# Altium footprint library surface.PcbLib: 50 footprints (part 2 of 4)
Each footprint in its own frame and in the unit in brackets; x right, y up, seen from the top. Pads: shape width x height; smd on the part's side, far side on the other; paste and mask are expansions set on the pad; w line width, h text height; cw(c..) or ccw(c..) is an arc to the next point about the centre after c.
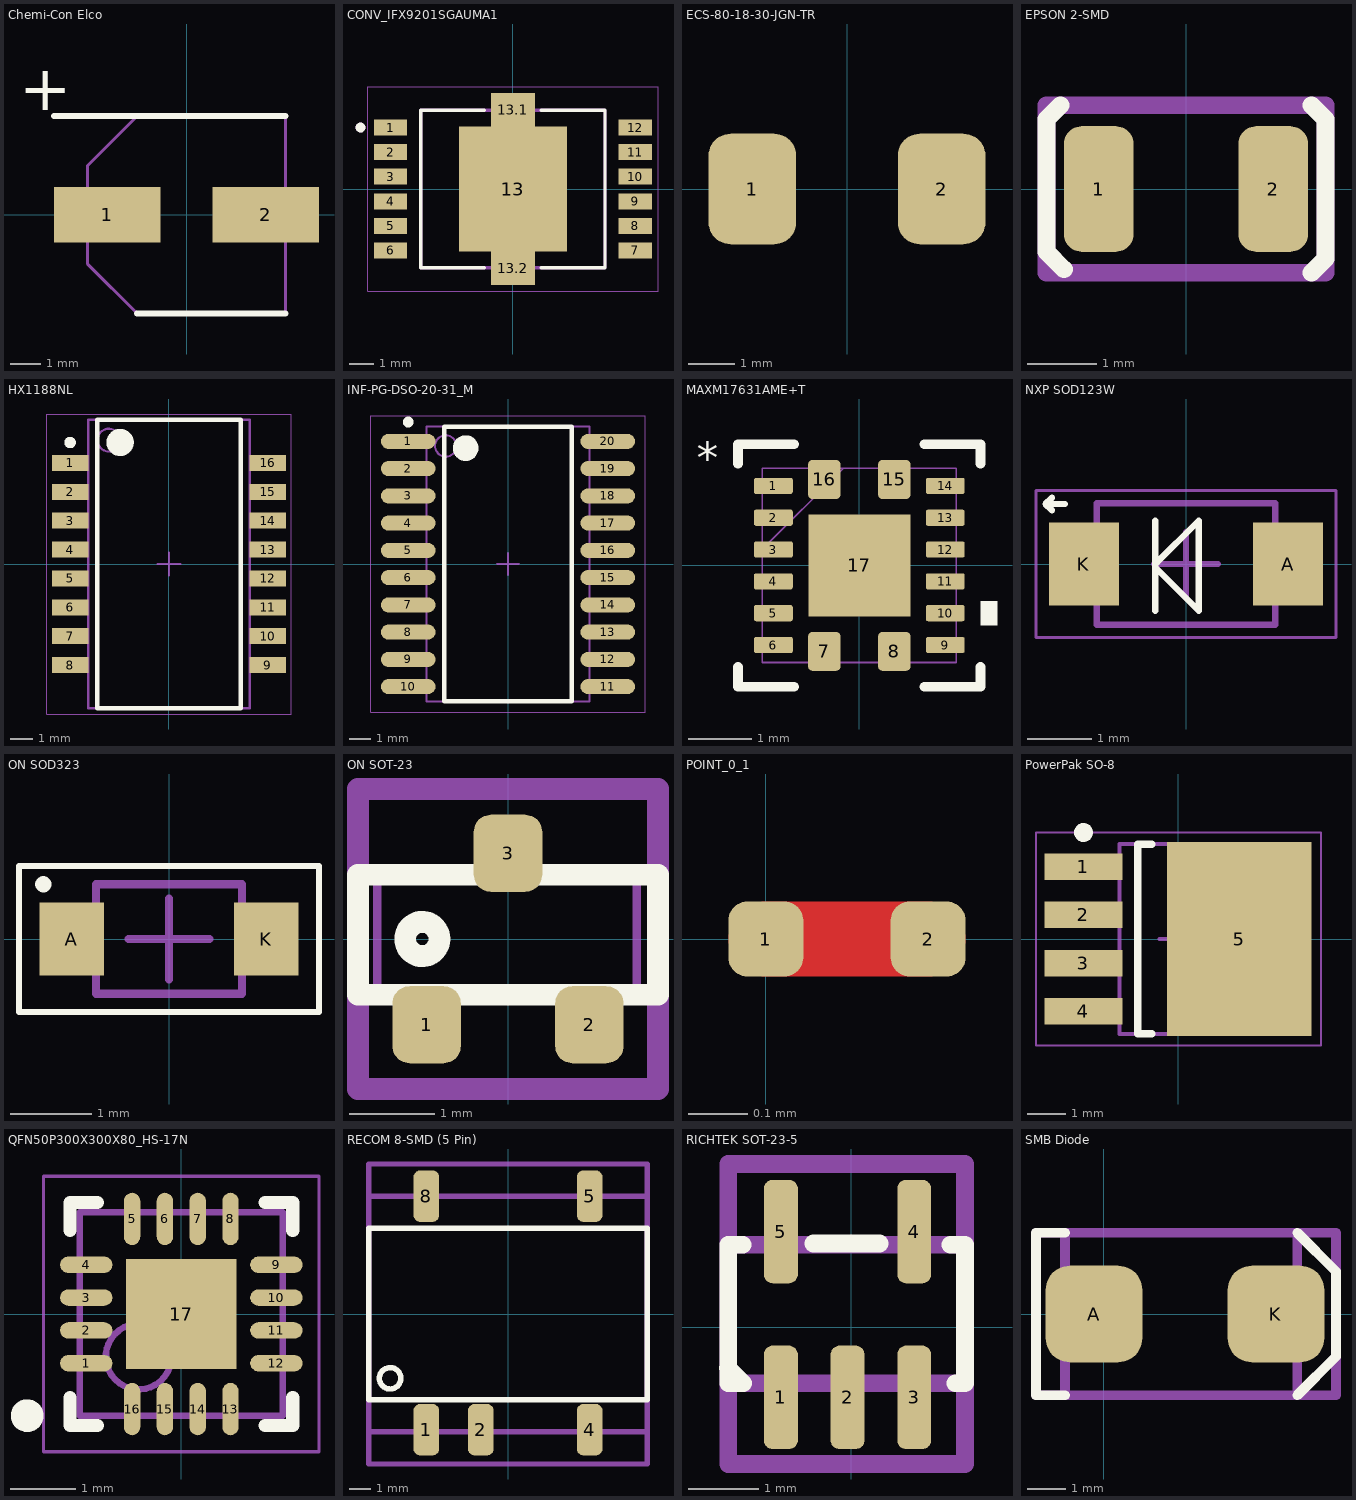
[diagram p1: the footprints below, top view; thin cyan lines are the x and y axes]

## Chemi-Con Elco [mm]
pads (2):
  rect 3.55x1.85 smd: 1(-2.65,0) 2(2.65,0)
Top Overlay:
  lines w0.2: -4.425,3.3 3.3,3.3 ; -1.65,-3.3 3.3,-3.3
  text "+" at -5.596,3.5 h1.52
Mechanical 15:
  lines w0.1: -3.3,-1.65 -3.3,1.65 -1.65,3.3 3.3,3.3 3.3,-3.3 -1.65,-3.3 -3.3,-1.65
3D body "HHXA350ARA470MF61G.stp": height 6.1, standoff 0, extent -3.7,-3.4 3.7,3.4

## CONV_IFX9201SGAUMA1 [mm]
pads (15):
  rect 1.35x0.65 smd: 1(-4.975,2.5) 2(-4.975,1.5) 3(-4.975,0.5) 4(-4.975,-0.5) 5(-4.975,-1.5) 6(-4.975,-2.5) 7(4.975,-2.5) 8(4.975,-1.5) 9(4.975,-0.5) 10(4.975,0.5) 11(4.975,1.5) 12(4.975,2.5)
  rect 4.4x5.1 smd paste-4: 13(0,0)
  rect 1.8x1.35 smd paste-2: 13.1(0,3.225) 13.2(0,-3.225)
Top Overlay:
  circle w0.2: c-6.2,2.5 r0.1
  lines w0.127: -1.15,-3.2 -3.75,-3.2 -3.75,3.2 -1.15,3.2 ; 1.15,-3.2 3.75,-3.2 3.75,3.2 1.15,3.2
Top Paste:
  region: 0.8,-3.8 -0.8,-3.8 -0.8,-2.85 0.8,-2.85
  region: -0.2,-2.45 -2.1,-2.45 -2.1,-0.2 -0.2,-0.2
  region: 2.1,-2.45 0.2,-2.45 0.2,-0.2 2.1,-0.2
  region: -0.2,0.2 -2.1,0.2 -2.1,2.45 -0.2,2.45
  region: 2.1,0.2 0.2,0.2 0.2,2.45 2.1,2.45
  region: 0.8,2.85 -0.8,2.85 -0.8,3.8 0.8,3.8
Mechanical 13:
  circle w0.2: c-6.2,2.5 r0.1
  lines w0.127: -3.75,-3.2 -3.75,3.2 3.75,3.2 3.75,-3.2 -3.75,-3.2
Mechanical 15:
  lines w0.05: -5.9,-4.15 -5.9,4.15 5.9,4.15 5.9,-4.15 -5.9,-4.15
3D body "step_temp.STEP": height 2.6, standoff 0, extent -5.15,-3.9 5.15,3.9

## ECS-80-18-30-JGN-TR [mm]
pads (2):
  rrect50% 1.9x2.4 smd: 1(-2.05,0) 2(2.05,0)

## EPSON 2-SMD [mm]
pads (2):
  rrect50% 1x1.8 smd: 1(-1.25,0) 2(1.25,0)
Top Overlay:
  lines w0.254: -1.8,1.2 -2,1 ; -1.75,-1.15 -2,-0.9 ; 1.8,-1.2 2,-1 2,1 ; 1.8,1.2 2,1 ; -2,-0.9 -2,-0.9 ; -2,-0.9 -2,1 ; -2,1 -2,1 ; 2,1 2,1 ; 2,1 2,1
Mechanical 13:
  lines w0.254: -2,-1.2 -2,1.2 2,1.2 2,-1.2 -2,-1.2
Mechanical 15:
  lines w0.254: -2,-1.2 -2,1.2 2,1.2 2,-1.2 -2,-1.2
3D body: height 1, standoff 0, extent -1.5,-1 1.5,1

## HX1188NL [mm]
height 5.97
pads (16):
  rect 1.6x0.7 smd: 1(-4.35,4.445) 2(-4.35,3.175) 3(-4.35,1.905) 4(-4.35,0.635) 5(-4.35,-0.635) 6(-4.35,-1.905) 7(-4.35,-3.175) 8(-4.35,-4.445) 9(4.35,-4.445) 10(4.35,-3.175) 11(4.35,-1.905) 12(4.35,-0.635) 13(4.35,0.635) 14(4.35,1.905) 15(4.35,3.175) 16(4.35,4.445)
Top Overlay:
  circle w0.25: c-4.35,5.345 r0.125
  circle w0.6: c-2.15,5.35 r0.3
  lines w0.2: -3.15,-6.35 -3.15,6.35 3.15,6.35 3.15,-6.35 -3.15,-6.35
Mechanical 13:
  circle w0.1: c-2.65,5.45 r0.5
  lines w0.1: -3.55,-6.35 -3.55,6.35 3.55,6.35 3.55,-6.35 -3.55,-6.35
Mechanical 15:
  lines w0.05: -5.375,-6.6 -5.375,6.6 5.375,6.6 5.375,-6.6 -5.375,-6.6
  lines w0.1: -0.5,0 0.5,0 ; 0,-0.5 0,0.5
3D body "HX1188NL.step": height 5.97, standoff 0, extent -4.7,-6.35 4.7,6.35

## INF-PG-DSO-20-31_M [mm] "SOP, 20-Leads, Body 12.7x7.5mm, Pitch 1.27mm, IPC Low Density"
height 2.65
pads (20):
  oval 2.55x0.7 smd: 1(-4.65,5.715) 2(-4.65,4.445) 3(-4.65,3.175) 4(-4.65,1.905) 5(-4.65,0.635) 6(-4.65,-0.635) 7(-4.65,-1.905) 8(-4.65,-3.175) 9(-4.65,-4.445) 10(-4.65,-5.715) 11(4.65,-5.715) 12(4.65,-4.445) 13(4.65,-3.175) 14(4.65,-1.905) 15(4.65,-0.635) 16(4.65,0.635) 17(4.65,1.905) 18(4.65,3.175) 19(4.65,4.445) 20(4.65,5.715)
Top Overlay:
  circle w0.6: c-1.975,5.4 r0.3
  circle w0.25: c-4.65,6.615 r0.125
  lines w0.2: -2.975,-6.4 2.975,-6.4 2.975,6.4 -2.975,6.4 -2.975,-6.4
Mechanical 13:
  circle w0.1: c-2.9,5.5 r0.5
  lines w0.1: -3.8,-6.4 3.8,-6.4 3.8,6.4 -3.8,6.4 -3.8,-6.4
Mechanical 15:
  lines w0.05: -6.4,-6.9 6.4,-6.9 6.4,6.9 -6.4,6.9 -6.4,-6.9
  lines w0.1: -0.5,0 0.5,0 ; 0,-0.5 0,0.5
3D body: height 2.65, standoff 0.1, extent -3.8,-6.4 3.8,6.4

## MAXM17631AME+T [mil]
pads (17):
  rrect25% 24x10 smd paste-5 mask+0: 1(-53.15,49.21) 2(-53.15,29.53) 3(-53.15,9.84) 4(-53.15,-9.84) 5(-53.15,-29.53) 6(-53.15,-49.21) 9(53.15,-49.21) 10(53.15,-29.53) 11(53.15,-9.84) 12(53.15,9.84) 13(53.15,29.53) 14(53.15,49.21)
  rrect25% 20x24 smd paste+0 mask+0: 7(-21.65,-53.15) 8(21.65,-53.15) 15(21.65,53.15) 16(-21.65,53.15)
  rect 63x63 smd paste+0 mask+0: 17(0,0)
Top Overlay:
  region: 75.15,-22.03 85.15,-22.03 85.15,-37.03 75.15,-37.03
  lines w6: -75,-62.85 -75,-75 -40.29,-75 ; -75,62.85 -75,75 -40.29,75 ; 40.29,-75 75,-75 75,-62.85 ; 40.29,75 75,75 75,62.85
  text "*" at -100.39,57.09 h19.68
Mechanical 13:
  lines w1: -60,10 -10,60 ; -60,-60 60,-60 60,60 -60,60 -60,-60
  text "*" at -43.65,34.06 h50
3D body "21-100298_90-100110_MXM.step": height 71.1, standoff 0, extent -62.01,-62.01 62.01,62.01

## NXP SOD123W [mm]
height 1.1
pads (2):
  rect 1.1x1.3 smd: A(1.6,0) K(-1.6,0)
Top Overlay:
  lines w0.1: -2.1,0.84 -2.2,0.94 ; -2.1,1.04 -2.2,0.94 ; -1.9,0.94 -2.2,0.94 ; -0.48,-0.16 -0.48,-0.73 -0.48,0.68 ; -0.48,-0.05 0.2,-0.73 0.2,0.68 -0.48,0
Mechanical 13:
  lines w0.1: -1.4,-0.95 1.4,-0.95 1.4,0.95 -1.4,0.95 -1.4,-0.95
Mechanical 15:
  lines w0.05: -2.35,-1.15 2.35,-1.15 2.35,1.15 -2.35,1.15 -2.35,-1.15
  lines w0.1: -0.5,0 0.5,0 ; 0,-0.5 0,0.5
3D body "NXP SOD323.step": height 1.1, standoff 0, extent -1.75,-0.95 1.75,0.95

## ON SOD323 [mm] "SODFL, 2-Leads, Body 1.25x2.50mm, IPC Low Density"
height 1
pads (2):
  rect 0.8x0.9 smd: A(-1.2,0) K(1.2,0)
Top Overlay:
  circle w0.1: c-1.55,0.675 r0.05
  lines w0.075: -1.85,-0.9 1.85,-0.9 1.85,0.9 -1.85,0.9 -1.85,-0.9
Mechanical 13:
  lines w0.1: -0.9,-0.675 -0.9,0.675 0.9,0.675 0.9,-0.675 -0.9,-0.675
Mechanical 15:
  lines w0.05: -1.85,-0.9 -1.85,0.9 1.85,0.9 1.85,-0.9 -1.85,-0.9
  lines w0.1: -0.5,0 0.5,0 ; 0,-0.5 0,0.5
3D body "ON SOD323.step": height 1, standoff 0, extent -1.25,-0.675 1.25,0.675

## ON SOT-23 [mm] "NUP2105L"
pads (3):
  rrect50% 0.8x0.9 smd: 1(-0.95,-1) 2(0.95,-1) 3(0,1)
Top Overlay:
  circle w0.254: c-1,0 r0.2
  lines w0.254: -1.75,0.75 -1.75,0.75 ; -1.75,0.75 -1.75,-0.65 1.75,-0.65 1.75,0.75 -1.75,0.75
Mechanical 13:
  lines w0.1: -1.525,-0.65 -1.525,0.75 1.5,0.75 1.5,-0.65 -1.525,-0.65
Mechanical 15:
  lines w0.254: -1.75,-1.75 -1.75,1.75 1.75,1.75 1.75,-1.75 -1.75,-1.75
3D body "SOT-23.STEP": height 1, standoff 0, extent -1.5,-1.275 1.5,1.275

## POINT_0_1 [mil]
pads (2):
  rrect50% 5x5 smd paste+0 mask+0: 1(0,0) 2(10.83,0)
Top Layer:
  lines w5: 0,0 10.83,0

## PowerPak SO-8 [mm] "TO, 5-Pads, Body 5.34x5.86mm (max), IPC Medium Density"
height 1.14
pads (5):
  rect 2.05x0.7 smd: 1(-2.5,1.905) 2(-2.5,0.635) 3(-2.5,-0.635) 4(-2.5,-1.905)
  rect 3.8x5.1 smd: 5(1.6,0)
Top Overlay:
  circle w0.25: c-2.5,2.805 r0.125
  lines w0.2: -0.7,-2.5 -1.075,-2.5 -1.075,2.5 -0.7,2.5
Mechanical 13:
  lines w0.1: -1.55,-2.5 -1.55,2.5 2.92,2.5 2.92,-2.5 -1.55,-2.5
Mechanical 15:
  lines w0.05: -3.75,-2.8 -3.75,2.8 3.75,2.8 3.75,-2.8 -3.75,-2.8
  lines w0.1: -0.5,0 0.5,0 ; 0,-0.5 0,0.5
3D body: height 1.14, standoff 0.13, extent -1.55,-2.5 2.92,2.5

## QFN50P300X300X80_HS-17N [mm] "QFN, 16-Leads, Body 3.00x3.00mm, Pitch 0.50mm, Thermal Pad 1.68x1.68mm, IPC Medium Density"
height 0.8
pads (17):
  oval 0.8x0.25 smd: 1(-1.45,-0.75) 2(-1.45,-0.25) 3(-1.45,0.25) 4(-1.45,0.75) 9(1.45,0.75) 10(1.45,0.25) 11(1.45,-0.25) 12(1.45,-0.75)
  oval 0.25x0.8 smd: 5(-0.75,1.45) 6(-0.25,1.45) 7(0.25,1.45) 8(0.75,1.45) 13(0.75,-1.45) 14(0.25,-1.45) 15(-0.25,-1.45) 16(-0.75,-1.45)
  rect 1.68x1.68 smd: 17(0,0)
Top Overlay:
  circle w0.25: c-2.35,-1.55 r0.125
  lines w0.2: -1.7,-1.275 -1.7,-1.7 -1.275,-1.7 ; -1.7,1.275 -1.7,1.7 -1.275,1.7 ; 1.275,-1.7 1.7,-1.7 1.7,-1.275 ; 1.275,1.7 1.7,1.7 1.7,1.275
Mechanical 13:
  circle w0.1: c-0.65,-0.65 r0.5
  lines w0.1: -1.55,-1.55 1.55,-1.55 1.55,1.55 -1.55,1.55 -1.55,-1.55
Mechanical 15:
  lines w0.05: -2.1,-2.1 2.1,-2.1 2.1,2.1 -2.1,2.1 -2.1,-2.1
  lines w0.1: -0.5,0 0.5,0 ; 0,-0.5 0,0.5
3D body: height 0.8, standoff 0.05, extent -1.55,-1.55 1.55,1.55

## RECOM 8-SMD (5 Pin) [mm]
pads (5):
  rrect50% 1.2x2.4 smd: 1(-3.81,-5.4) 2(-1.27,-5.4) 4(3.81,-5.4) 5(3.81,5.5) 8(-3.81,5.5)
Top Overlay:
  circle w0.254: c-5.5,-3 r0.5
  lines w0.254: -6.5,-4 -6.5,4 6.5,4 6.5,-4 -6.5,-4
Mechanical 13:
  lines w0.254: -6.5,-5.5 -6.5,5.5 6.5,5.5 6.5,-5.5 -6.5,-5.5
Mechanical 15:
  lines w0.254: -6.5,-7 6.5,-7 6.5,7 -6.5,7 -6.5,-7
3D body "R2S-2405-H--3DModel-STEP-1.STEP": height 9.2, standoff 0.2, extent -6.375,-5.55 6.375,5.55

## RICHTEK SOT-23-5 [mil]
pads (5):
  rrect50% 19x58 smd: 1(-39.37,-39.37) 2(-1.97,-39.37) 3(35.43,-39.37) 4(35.43,53.63) 5(-39.37,53.63)
Top Overlay:
  lines w10: -69,-23 -60.5,-31.5 ; -60.74,46.26 -68.9,46.26 -68.9,-31.5 -60.5,-31.5 ; -21,47 16,47 ; 55.74,46.26 63.98,46.26 63.98,-31.5 58.5,-31.5 ; -60.5,-31.5 -60.5,-31.5
Mechanical 13:
  lines w10: -68.9,-76.77 63.98,-76.77 63.98,91.54 -68.9,91.54 -68.9,-76.77
Mechanical 15:
  lines w10: -68.9,-31.5 -68.9,46.26 63.98,46.26 63.98,-31.5 -68.9,-31.5
3D body "DBV5.step": height 57.09, standoff 0, extent -61.97,-51.13 58.03,66.9

## SMB Diode [mm]
pads (2):
  rrect50% 2.5x2.5 smd: A(-0.25,0) K(4.45,0)
Top Overlay:
  lines w0.254: -1,-2.1 -1.75,-2.1 -1.75,2.1 -1,2.1 ; 5,-2.1 6,-1.1 6,1.1 5,2.1 ; 6,-1 6,0.7
Mechanical 13:
  lines w0.254: -1,-2.1 5,-2.1 5,2.1 -1,2.1 -1,-2.1
Mechanical 15:
  lines w0.254: -1.75,-2.1 6,-2.1 6,2.1 -1.75,2.1 -1.75,-2.1
3D body "SMB.STEP": height 2.5, standoff 0, extent -0.695,-1.97 4.895,1.97